# EAGLE library part EBYTE (library microcodes)
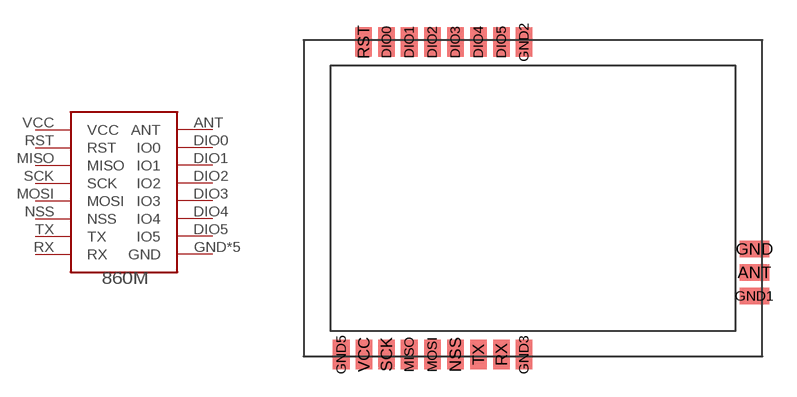
[diagram p4: symbol with the pads of MPCB; footprint MPCB]

Designator prefix -

## EBYTE  [MPCB]
ANT  ANT  out
DIO0  IO0
DIO1  IO1
DIO2  IO2
DIO3  IO3
DIO4  IO4
DIO5  IO5
GND  GND  pwr
GND1  GND  pwr
GND2  GND  pwr
GND3  GND  pwr
GND5  GND  pwr
MISO  MISO  out
MOSI  MOSI  in
NSS  NSS  in
RST  RST
RX  RX
SCK  SCK  in
TX  TX
VCC  VCC  pwr

## Footprint MPCB (pad centres in mm)
v1 datasheet; v2 disregard dt - checked against transparent paper; v2.1 - realigned 0.0125mm antenna pin in between gnd pads, spotted with ratsnest
smd 1.65 x 0.92: ANT 11.86,-4.357; GND 11.86,-3.06; GND1 11.86,-5.67
smd 0.92 x 1.65: DIO0 -8.504,8.4; DIO1 -7.25,8.4; DIO2 -5.974,8.4; DIO3 -4.699,8.4; DIO4 -3.423,8.4; DIO5 -2.148,8.4; GND2 -0.898,8.4; GND3 -0.898,-8.9; GND5 -11.012,-8.9; MISO -7.25,-8.9; MOSI -5.975,-8.9; NSS -4.699,-8.9; RST -9.78,8.4; RX -2.148,-8.9; SCK -8.512,-8.9; TX -3.424,-8.9; VCC -9.762,-8.9